# Altium integrated library Transceivers.IntLib: 7 symbols
Pins are listed as number, name and electrical type; pins without a type are passive.

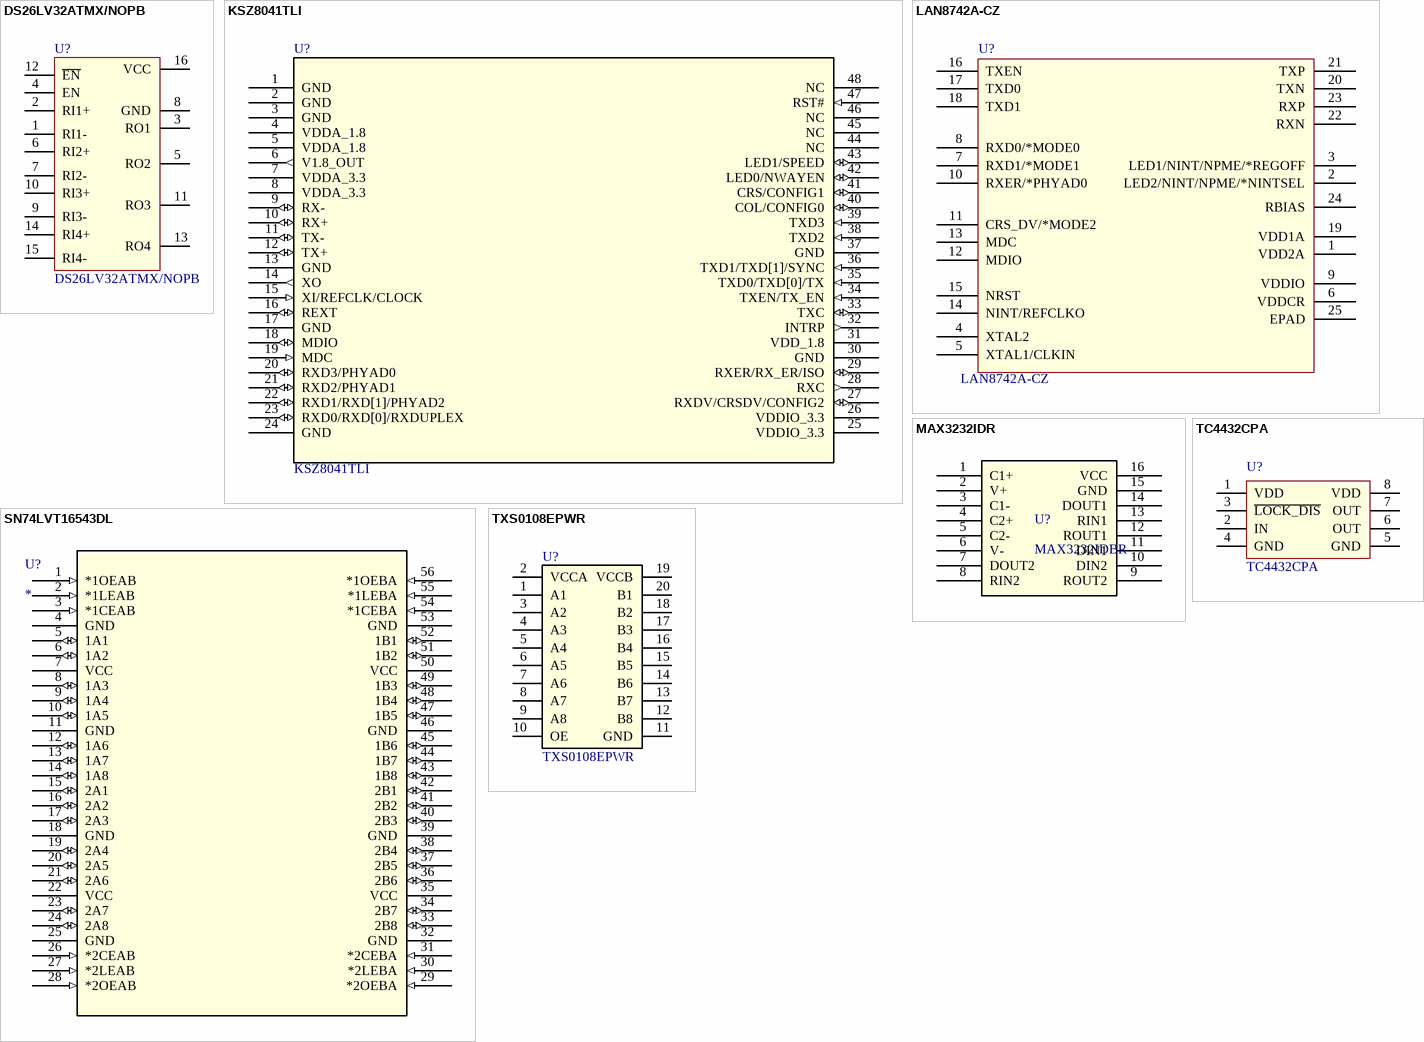
[diagram p0: symbols DS26LV32ATMX/NOPB to TXS0108EPWR]

## DS26LV32ATMX/NOPB
designator U?
Encoder differential line drive; Vendor: Texas Instruments; Built_By: EMA_UL_Team; SourceLibrary: National_2014-06-20; Manufacturer_Part_Number: DS26LV32ATMX/NOPB; Copyright: Copyright (C) 2018 Accelerated Designs. All rights reserved; RefDes: RefDes; Type: DEV
footprint M16A_TEX-M(MY_BIG)
pins: 1 RI1-, 2 RI1+, 3 RO1, 4 EN, 5 RO2, 6 RI2+, 7 RI2-, 8 GND, 9 RI3-, 10 RI3+, 11 RO3, 12 ~{EN}, 13 RO4, 14 RI4+, 15 RI4-, 16 VCC

## KSZ8041TLI
designator U?
No Description Available; Vendor: Microchip; Built_By: EMA_Cory; SourceLibrary: Add_to_database_2021-01-07; Datasheet: https://ww1.microchip.com/downloads/en/DeviceDoc/00002436B.pdf; Manufacturer_Part_Number: KSZ8041TLI; Copyright: Copyright (C) 2018 Accelerated Designs. All rights reserved; RefDes: RefDes; Type: DEV
footprint TQFP7X7-48LD-PL-1_MCH-M
pins: 1 GND, 2 GND, 3 GND, 4 VDDA_1.8 (power), 5 VDDA_1.8 (power), 6 V1.8_OUT (out), 7 VDDA_3.3 (power), 8 VDDA_3.3 (power), 9 RX- (io), 10 RX+ (io), 11 TX- (io), 12 TX+ (io), 13 GND, 14 XO (out), 15 XI/REFCLK/CLOCK (in), 16 REXT (io), 17 GND, 18 MDIO (io), 19 MDC (in), 20 RXD3/PHYAD0 (io), 21 RXD2/PHYAD1 (io), 22 RXD1/RXD[1]/PHYAD2 (io), 23 RXD0/RXD[0]/RXDUPLEX (io), 24 GND, 25 VDDIO_3.3 (power), 26 VDDIO_3.3 (power), 27 RXDV/CRSDV/CONFIG2 (io), 28 RXC (out), 29 RXER/RX_ER/ISO (io), 30 GND, 31 VDD_1.8 (power), 32 INTRP (out), 33 TXC (io), 34 TXEN/TX_EN (in), 35 TXD0/TXD[0]/TX (in), 36 TXD1/TXD[1]/SYNC (in), 37 GND, 38 TXD2 (in), 39 TXD3 (in), 40 COL/CONFIG0 (io), 41 CRS/CONFIG1 (io), 42 LED0/NWAYEN (io), 43 LED1/SPEED (io), 44 NC, 45 NC, 46 NC, 47 RST# (in), 48 NC

## LAN8742A-CZ
designator U?
10/100 Base-T/TX Ethernet Transceiver; Vendor: Microchip; Built_By: EMA_UL_Team; SourceLibrary: Microchip_2014-12-15; Manufacturer_Part_Number: LAN8742A-CZ; Copyright: Copyright (C) 2018 Accelerated Designs. All rights reserved; RefDes: RefDes; Type: DEV
footprint SQFN24_4X4MC_MCH-M(MY_BIG)
pins: 1 VDD2A (power), 2 LED2/NINT/NPME/*NINTSEL, 3 LED1/NINT/NPME/*REGOFF, 4 XTAL2, 5 XTAL1/CLKIN, 6 VDDCR (power), 7 RXD1/*MODE1, 8 RXD0/*MODE0, 9 VDDIO (power), 10 RXER/*PHYAD0, 11 CRS_DV/*MODE2, 12 MDIO, 13 MDC, 14 NINT/REFCLKO, 15 NRST, 16 TXEN, 17 TXD0, 18 TXD1, 19 VDD1A (power), 20 TXN, 21 TXP, 22 RXN, 23 RXP, 24 RBIAS, 25 EPAD

## MAX3232IDR
designator U?, comment MAX3232IDBR
3-V to 5.5-V Multichannel RS-232 Line Driver/Receiver; Manufacturer: Texas Instruments; INDUSTRY_STD_PKG_TYPE: SSOP; PIN_COUNT: 16; PACKAGE_DESIGNATOR: DB; Datasheet_URL: http://www.ti.com/lit/gpn/MAX3232; FAMILY_NAME: RS-232; GENERIC_PART_NUMBER: MAX3232; Vendor: Texas Instruments; Manufacturer_Part_Number: MAX3232IDBR; Copyright: Copyright (C) 2018 Accelerated Designs. All rights reserved; RefDes: RefDes; Type: DEV
footprint D16-M
pins: 1 C1+, 2 V+ (power), 3 C1-, 4 C2+, 5 C2-, 6 V- (power), 7 DOUT2, 8 RIN2, 9 ROUT2, 10 DIN2, 11 DIN1, 12 ROUT1, 13 RIN1, 14 DOUT1, 15 GND (power), 16 VCC (power)

## SN74LVT16543DL
designator U?
3.3-V ABT 16-Bit Registered Transceivers With 3-State Outputs; Manufacturer: Texas Instruments; GENERIC_PART_NUMBER: SN74LVT16543; INDUSTRY_STD_PKG_TYPE: SSOP; PIN_COUNT: 56; PACKAGE_DESIGNATOR: DL; Datasheet_URL: http://www.ti.com/lit/gpn/SN74LVT16543; FAMILY_NAME: REGISTERED TRANSCEIVER; Copyright: Copyright (C) 2018 Accelerated Designs. All rights reserved; RefDes: RefDes; Type: DEV
footprint DL56-M
pins: 1 *1OEAB (in), 2 *1LEAB (in), 3 *1CEAB (in), 4 GND (power), 5 1A1 (io), 6 1A2 (io), 7 VCC (power), 8 1A3 (io), 9 1A4 (io), 10 1A5 (io), 11 GND (power), 12 1A6 (io), 13 1A7 (io), 14 1A8 (io), 15 2A1 (io), 16 2A2 (io), 17 2A3 (io), 18 GND (power), 19 2A4 (io), 20 2A5 (io), 21 2A6 (io), 22 VCC (power), 23 2A7 (io), 24 2A8 (io), 25 GND (power), 26 *2CEAB (in), 27 *2LEAB (in), 28 *2OEAB (in), 29 *2OEBA (in), 30 *2LEBA (in), 31 *2CEBA (in), 32 GND (power), 33 2B8 (io), 34 2B7 (io), 35 VCC (power), 36 2B6 (io), 37 2B5 (io), 38 2B4 (io), 39 GND (power), 40 2B3 (io), 41 2B2 (io), 42 2B1 (io), 43 1B8 (io), 44 1B7 (io), 45 1B6 (io), 46 GND (power), 47 1B5 (io), 48 1B4 (io), 49 1B3 (io), 50 VCC (power), 51 1B2 (io), 52 1B1 (io), 53 GND (power), 54 *1CEBA (in), 55 *1LEBA (in), 56 *1OEBA (in)

## TC4432CPA
designator U?
No Description Available; Vendor: Microchip; Built_By: EMA_UL_Team; SourceLibrary: Microchip_2011-05-13; Manufacturer_Part_Number: TC4432CPA; Copyright: Copyright (C) 2021 Accelerated Designs. All rights reserved; RefDes: RefDes; Type: DEV
footprint PDIP8_300MC_MCH
pins: 1 VDD, 2 IN, 3 ~{LOCK_DIS}, 4 GND, 5 GND, 6 OUT, 7 OUT, 8 VDD

## TXS0108EPWR
designator U?
8-Bit Voltage Traslator; Vendor: Texas Instruments; PACKAGE_DESIGNATOR: PW; PIN_COUNT: 20; FAMILY_NAME: AUTO DIRECTION SENSING DUAL SUPPLY TRANSLATOR; INDUSTRY_STD_PKG_TYPE: TSSOP; Manufacturer_Part_Number: TXS0108EPWR; GENERIC_PART_NUMBER: TXS0108E; Datasheet_URL: http://www.ti.com/lit/gpn/TXS0108E; Manufacturer: Texas Instruments; Copyright: Copyright (C) 2018 Accelerated Designs. All rights reserved; RefDes: RefDes; Type: DEV
footprint PW20-M(MY-MAXI
pins: 1 A1, 2 VCCA (power), 3 A2, 4 A3, 5 A4, 6 A5, 7 A6, 8 A7, 9 A8, 10 OE, 11 GND (power), 12 B8, 13 B7, 14 B6, 15 B5, 16 B4, 17 B3, 18 B2, 19 VCCB (power), 20 B1